# Altium footprint library Passives.PcbLib: 88 footprints (part 6 of 6)
Each footprint in its own frame and in the unit in brackets; x right, y up, seen from the top. Pads: shape width x height; smd on the part's side, far side on the other; paste and mask are expansions set on the pad; w line width, h text height; cw(c..) or ccw(c..) is an arc to the next point about the centre after c.
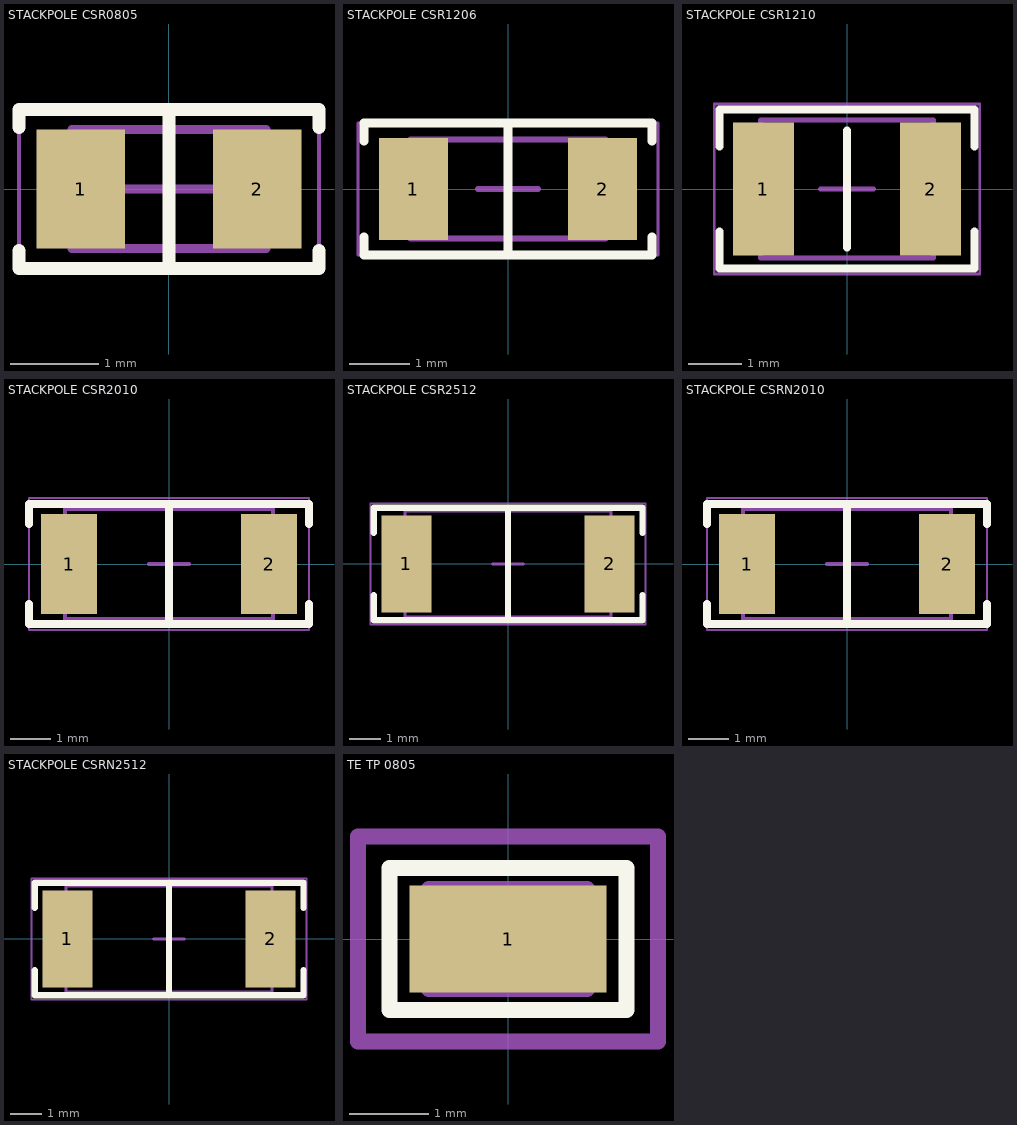
[diagram p5: the footprints below, top view; thin cyan lines are the x and y axes]

## STACKPOLE CSR0805 [mm] "Chip Resistor, 2-Leads, Body 2.00x1.25mm, IPC Medium Density"
height 0.7
pads (2):
  rect 1x1.35 smd: 1(-1,0) 2(1,0)
Top Overlay:
  lines w0.15: -1.7,-0.7 -1.7,-0.9 1.7,-0.9 1.7,-0.7 ; -1.7,0.7 -1.7,0.9 1.7,0.9 1.7,0.7 ; 0,-0.9 0,0.9
Mechanical 13:
  lines w0.1: -1.1,-0.675 1.1,-0.675 1.1,0.675 -1.1,0.675 -1.1,-0.675
Mechanical 15:
  lines w0.05: -1.7,-0.95 1.7,-0.95 1.7,0.95 -1.7,0.95 -1.7,-0.95
  lines w0.1: -0.5,0 0.5,0 ; 0,-0.5 0,0.5
3D body: height 0.55, standoff 0, extent -1.05,-0.625 1.05,0.625

## STACKPOLE CSR1206 [mm] "Chip Resistor, 2-Leads, Body 3.13x1.55mm, IPC Medium Density"
height 0.7
pads (2):
  rect 1.15x1.7 smd: 1(-1.575,0) 2(1.575,0)
Top Overlay:
  lines w0.15: -2.4,-0.8 -2.4,-1.1 2.4,-1.1 2.4,-0.8 ; -2.4,0.8 -2.4,1.1 2.4,1.1 2.4,0.8 ; 0,-1.1 0,1.1
Mechanical 13:
  lines w0.1: -1.625,-0.825 1.625,-0.825 1.625,0.825 -1.625,0.825 -1.625,-0.825
Mechanical 15:
  lines w0.05: -2.5,-1.1 2.5,-1.1 2.5,1.1 -2.5,1.1 -2.5,-1.1
  lines w0.1: -0.5,0 0.5,0 ; 0,-0.5 0,0.5
3D body: height 0.55, standoff 0, extent -1.6,-0.775 1.6,0.775

## STACKPOLE CSR1210 [mm] "Chip Resistor, 2-Leads, Body 3.1x2.6mm, IPC Medium Density"
height 0.65
pads (2):
  rect 1.15x2.5 smd: 1(-1.575,0) 2(1.575,0)
Top Overlay:
  lines w0.15: -2.4,-0.8 -2.4,-1.5 2.4,-1.5 2.4,-0.8 ; -2.4,0.8 -2.4,1.5 2.4,1.5 2.4,0.8 ; 0,-1.1 0,1.1
Mechanical 13:
  lines w0.1: -1.625,-1.3 -1.625,1.3 1.625,1.3 1.625,-1.3 -1.625,-1.3
Mechanical 15:
  lines w0.05: -2.5,-1.6 -2.5,1.6 2.5,1.6 2.5,-1.6 -2.5,-1.6
  lines w0.1: -0.5,0 0.5,0 ; 0,-0.5 0,0.5
3D body: height 0.55, standoff 0, extent -1.6,-1.3 1.6,1.3

## STACKPOLE CSR2010 [mm] "Chip Resistor, 2-Leads, Body 5.00x2.54mm, IPC Medium Density"
height 0.65
pads (2):
  rect 1.4x2.5 smd: 1(-2.5,0) 2(2.5,0)
Top Overlay:
  lines w0.2: -3.5,-1 -3.5,-1.5 3.5,-1.5 3.5,-1 ; -3.5,1 -3.5,1.5 3.5,1.5 3.5,1 ; 0,-1.5 0,1.5
Mechanical 13:
  lines w0.1: -2.6,-1.37 2.6,-1.37 ; -2.6,-1.37 2.6,-1.37 ; -2.6,-1.37 -2.6,1.37 2.6,1.37 2.6,-1.37
Mechanical 15:
  lines w0.05: -3.5,-1.65 3.5,-1.65 3.5,1.65 -3.5,1.65 -3.5,-1.65
  lines w0.1: -0.5,0 0.5,0 ; 0,-0.5 0,0.5
3D body: height 0.5, standoff 0, extent -2.575,-1.27 2.575,1.27

## STACKPOLE CSR2512 [mm] "Chip Resistor, 2-Leads, Body 6.40x3.20mm, IPC Medium Density"
height 0.65
pads (2):
  rect 1.6x3.1 smd: 1(-3.25,0) 2(3.25,0)
Top Overlay:
  lines w0.2: -4.3,-1 -4.3,-1.8 4.3,-1.8 4.3,-1 ; -4.3,1 -4.3,1.8 4.3,1.8 4.3,1 ; 0,-1.8 0,1.8
Mechanical 13:
  lines w0.1: -3.3,-1.7 3.3,-1.7 3.3,1.7 -3.3,1.7 -3.3,-1.7
Mechanical 15:
  lines w0.05: -4.4,-1.95 4.4,-1.95 4.4,1.95 -4.4,1.95 -4.4,-1.95
  lines w0.1: -0.5,0 0.5,0 ; 0,-0.5 0,0.5
3D body: height 0.5, standoff 0, extent -3.275,-1.6 3.275,1.6

## STACKPOLE CSRN2010 [mm] "Chip Resistor, 2-Leads, Body 5.00x2.54mm, IPC Medium Density"
height 0.65
pads (2):
  rect 1.4x2.5 smd: 1(-2.5,0) 2(2.5,0)
Top Overlay:
  lines w0.2: -3.5,-1 -3.5,-1.5 3.5,-1.5 3.5,-1 ; -3.5,1 -3.5,1.5 3.5,1.5 3.5,1 ; 0,-1.5 0,1.5
Mechanical 13:
  lines w0.1: -2.6,-1.37 2.6,-1.37 ; -2.6,-1.37 2.6,-1.37 ; -2.6,-1.37 -2.6,1.37 2.6,1.37 2.6,-1.37
Mechanical 15:
  lines w0.05: -3.5,-1.65 3.5,-1.65 3.5,1.65 -3.5,1.65 -3.5,-1.65
  lines w0.1: -0.5,0 0.5,0 ; 0,-0.5 0,0.5
3D body: height 0.6, standoff 0, extent -2.575,-1.225 2.575,1.225

## STACKPOLE CSRN2512 [mm] "Chip Resistor, 2-Leads, Body 6.40x3.20mm, IPC Medium Density"
height 0.65
pads (2):
  rect 1.6x3.1 smd: 1(-3.25,0) 2(3.25,0)
Top Overlay:
  lines w0.2: -4.3,-1 -4.3,-1.8 4.3,-1.8 4.3,-1 ; -4.3,1 -4.3,1.8 4.3,1.8 4.3,1 ; 0,-1.8 0,1.8
Mechanical 13:
  lines w0.1: -3.3,-1.7 3.3,-1.7 3.3,1.7 -3.3,1.7 -3.3,-1.7
Mechanical 15:
  lines w0.05: -4.4,-1.95 4.4,-1.95 4.4,1.95 -4.4,1.95 -4.4,-1.95
  lines w0.1: -0.5,0 0.5,0 ; 0,-0.5 0,0.5
3D body: height 0.6, standoff 0, extent -3.25,-1.575 3.25,1.575

## TE TP 0805 [mm]
height 1.45
pads (1):
  rect 2.5x1.35 smd: 1(0,0)
Top Overlay:
  lines w0.2: -1.5,-0.9 1.5,-0.9 1.5,0.9 -1.5,0.9 -1.5,-0.9
Mechanical 1:
  lines w0.2: -1,-0.637 -1,0.638 1,0.638 1,-0.637 -1,-0.637
Mechanical 15:
  lines w0.2: -0.5,0 0.5,0 ; 0,-0.5 0,0.5 ; -1.9,-1.3 -1.9,1.3 1.9,1.3 1.9,-1.3 -1.9,-1.3
3D body: height 1.48, standoff 0.03, extent -1,-0.637 1,0.638